# Altium schematic symbol library SPI200M1-240x320屏幕模块-原理图库.SchLib: 2 symbols
Pins are listed as number, name and electrical type; pins without a type are passive.

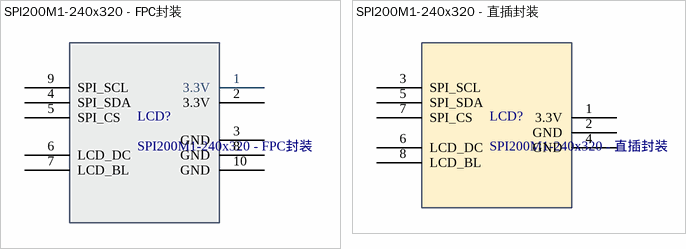
[diagram p0: symbols SPI200M1-240x320 - FPC封装 to SPI200M1-240x320 - 直插封装]

## SPI200M1-240x320 - FPC封装
designator LCD?
footprint FPC10P-0.5MM
pins: 1 3.3V, 2 3.3V, 3 GND, 4 SPI_SDA, 5 SPI_CS, 6 LCD_DC, 7 LCD_BL, 8 GND, 9 SPI_SCL, 10 GND

## SPI200M1-240x320 - 直插封装
designator LCD?
pins: 1 3.3V, 2 GND, 3 SPI_SCL, 4 GND, 5 SPI_SDA, 6 LCD_DC, 7 SPI_CS, 8 LCD_BL